# Altium footprint library TestPoint.PcbLib: 2 footprints
Each footprint in its own frame and in the unit in brackets; x right, y up, seen from the top. Pads: shape width x height; smd on the part's side, far side on the other; paste and mask are expansions set on the pad; w line width, h text height; cw(c..) or ccw(c..) is an arc to the next point about the centre after c.
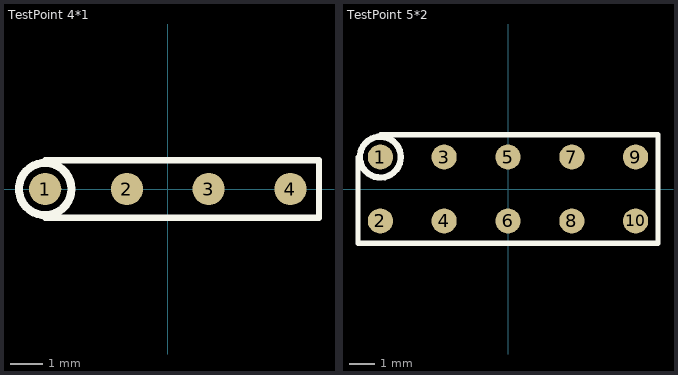
[diagram p0: the footprints below, top view; thin cyan lines are the x and y axes]

## TestPoint 4*1 [mm]
pads (4):
  round 1 smd: 1(-3.81,0) 2(-1.27,0) 3(1.27,0) 4(3.81,0)
Top Overlay:
  circle w0.254: c-3.81,0 r0.813
  lines w0.2: -3.81,-0.889 4.699,-0.889 4.699,0.889 -3.81,0.889

## TestPoint 5*2 [mm] "2.54mm 5*2"
pads (10):
  round 1 smd: 1(-5.08,1.27) 2(-5.08,-1.27) 3(-2.54,1.27) 4(-2.54,-1.27) 5(0,1.27) 6(0,-1.27) 7(2.54,1.27) 8(2.54,-1.27) 9(5.08,1.27) 10(5.08,-1.27)
Top Overlay:
  circle w0.254: c-5.08,1.27 r0.813
  lines w0.2: -5.969,1.27 -5.969,-2.159 5.969,-2.159 5.969,2.159 -5.08,2.159